# EAGLE library part AD9216 (library IC)
Analog Devices 10-Bit Dual A/D Converter
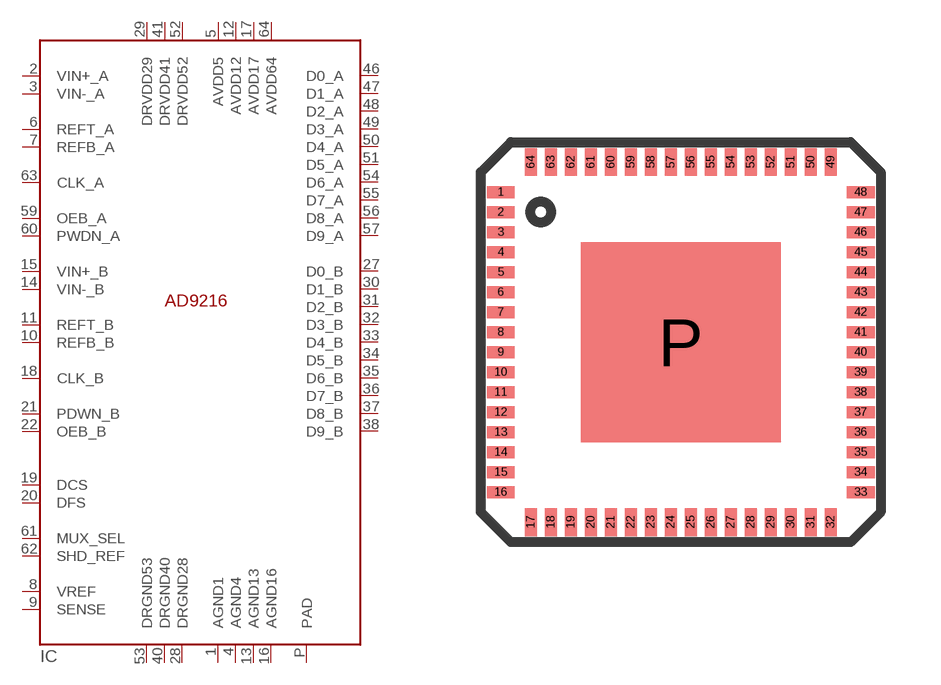
[diagram p150: symbol with the pads of LFCSP64; footprint LFCSP64]

Designator prefix IC

## AD9216  [LFCSP64]
1  AGND1  pwr
2  VIN+_A  in
3  VIN-_A  in
4  AGND4  pwr
5  AVDD5  pwr
6  REFT_A  in
7  REFB_A  in
8  VREF
9  SENSE  in
10  REFB_B  in
11  REFT_B  in
12  AVDD12  pwr
13  AGND13  pwr
14  VIN-_B  in
15  VIN+_B  in
16  AGND16  pwr
17  AVDD17  pwr
18  CLK_B  in
19  DCS  in
20  DFS  in
21  PDWN_B  in
22  OEB_B  in
27  D0_B  out
28  DRGND28  pwr
29  DRVDD29  pwr
30  D1_B  out
31  D2_B  out
32  D3_B  out
33  D4_B  out
34  D5_B  out
35  D6_B  out
36  D7_B  out
37  D8_B  out
38  D9_B  out
40  DRGND40  pwr
41  DRVDD41  pwr
46  D0_A  out
47  D1_A  out
48  D2_A  out
49  D3_A  out
50  D4_A  out
51  D5_A  out
52  DRVDD52  pwr
53  DRGND53  pwr
54  D6_A  out
55  D7_A  out
56  D8_A  out
57  D9_A  out
59  OEB_A  in
60  PWDN_A  in
61  MUX_SEL  in
62  SHD_REF  in
63  CLK_A  in
64  AVDD64  pwr
P  PAD  pwr

## Footprint LFCSP64 (pad centres in mm)
64 Lead Frame Chip Scale Package (Analog Devices)
smd 0.7 x 0.3: 1 -4.5,3.75; 2 -4.5,3.25; 3 -4.5,2.75; 4 -4.5,2.25; 5 -4.5,1.75; 6 -4.5,1.25; 7 -4.5,0.75; 8 -4.5,0.25; 9 -4.5,-0.25; 10 -4.5,-0.75; 11 -4.5,-1.25; 12 -4.5,-1.75; 13 -4.5,-2.25; 14 -4.5,-2.75; 15 -4.5,-3.25; 16 -4.5,-3.75; 33 4.5,-3.75; 34 4.5,-3.25; 35 4.5,-2.75; 36 4.5,-2.25; 37 4.5,-1.75; 38 4.5,-1.25; 39 4.5,-0.75; 40 4.5,-0.25; 41 4.5,0.25; 42 4.5,0.75; 43 4.5,1.25; 44 4.5,1.75; 45 4.5,2.25; 46 4.5,2.75; 47 4.5,3.25; 48 4.5,3.75
smd 0.3 x 0.7: 17 -3.75,-4.5; 18 -3.25,-4.5; 19 -2.75,-4.5; 20 -2.25,-4.5; 21 -1.75,-4.5; 22 -1.25,-4.5; 23 -0.75,-4.5; 24 -0.25,-4.5; 25 0.25,-4.5; 26 0.75,-4.5; 27 1.25,-4.5; 28 1.75,-4.5; 29 2.25,-4.5; 30 2.75,-4.5; 31 3.25,-4.5; 32 3.75,-4.5; 49 3.75,4.5; 50 3.25,4.5; 51 2.75,4.5; 52 2.25,4.5; 53 1.75,4.5; 54 1.25,4.5; 55 0.75,4.5; 56 0.25,4.5; 57 -0.25,4.5; 58 -0.75,4.5; 59 -1.25,4.5; 60 -1.75,4.5; 61 -2.25,4.5; 62 -2.75,4.5; 63 -3.25,4.5; 64 -3.75,4.5
smd 5 x 5: P 0,0